# Altium integrated library Analog Devices Data Converters Analog-to-Digital Converters.IntLib: 2400 symbols (part 326 of 338)
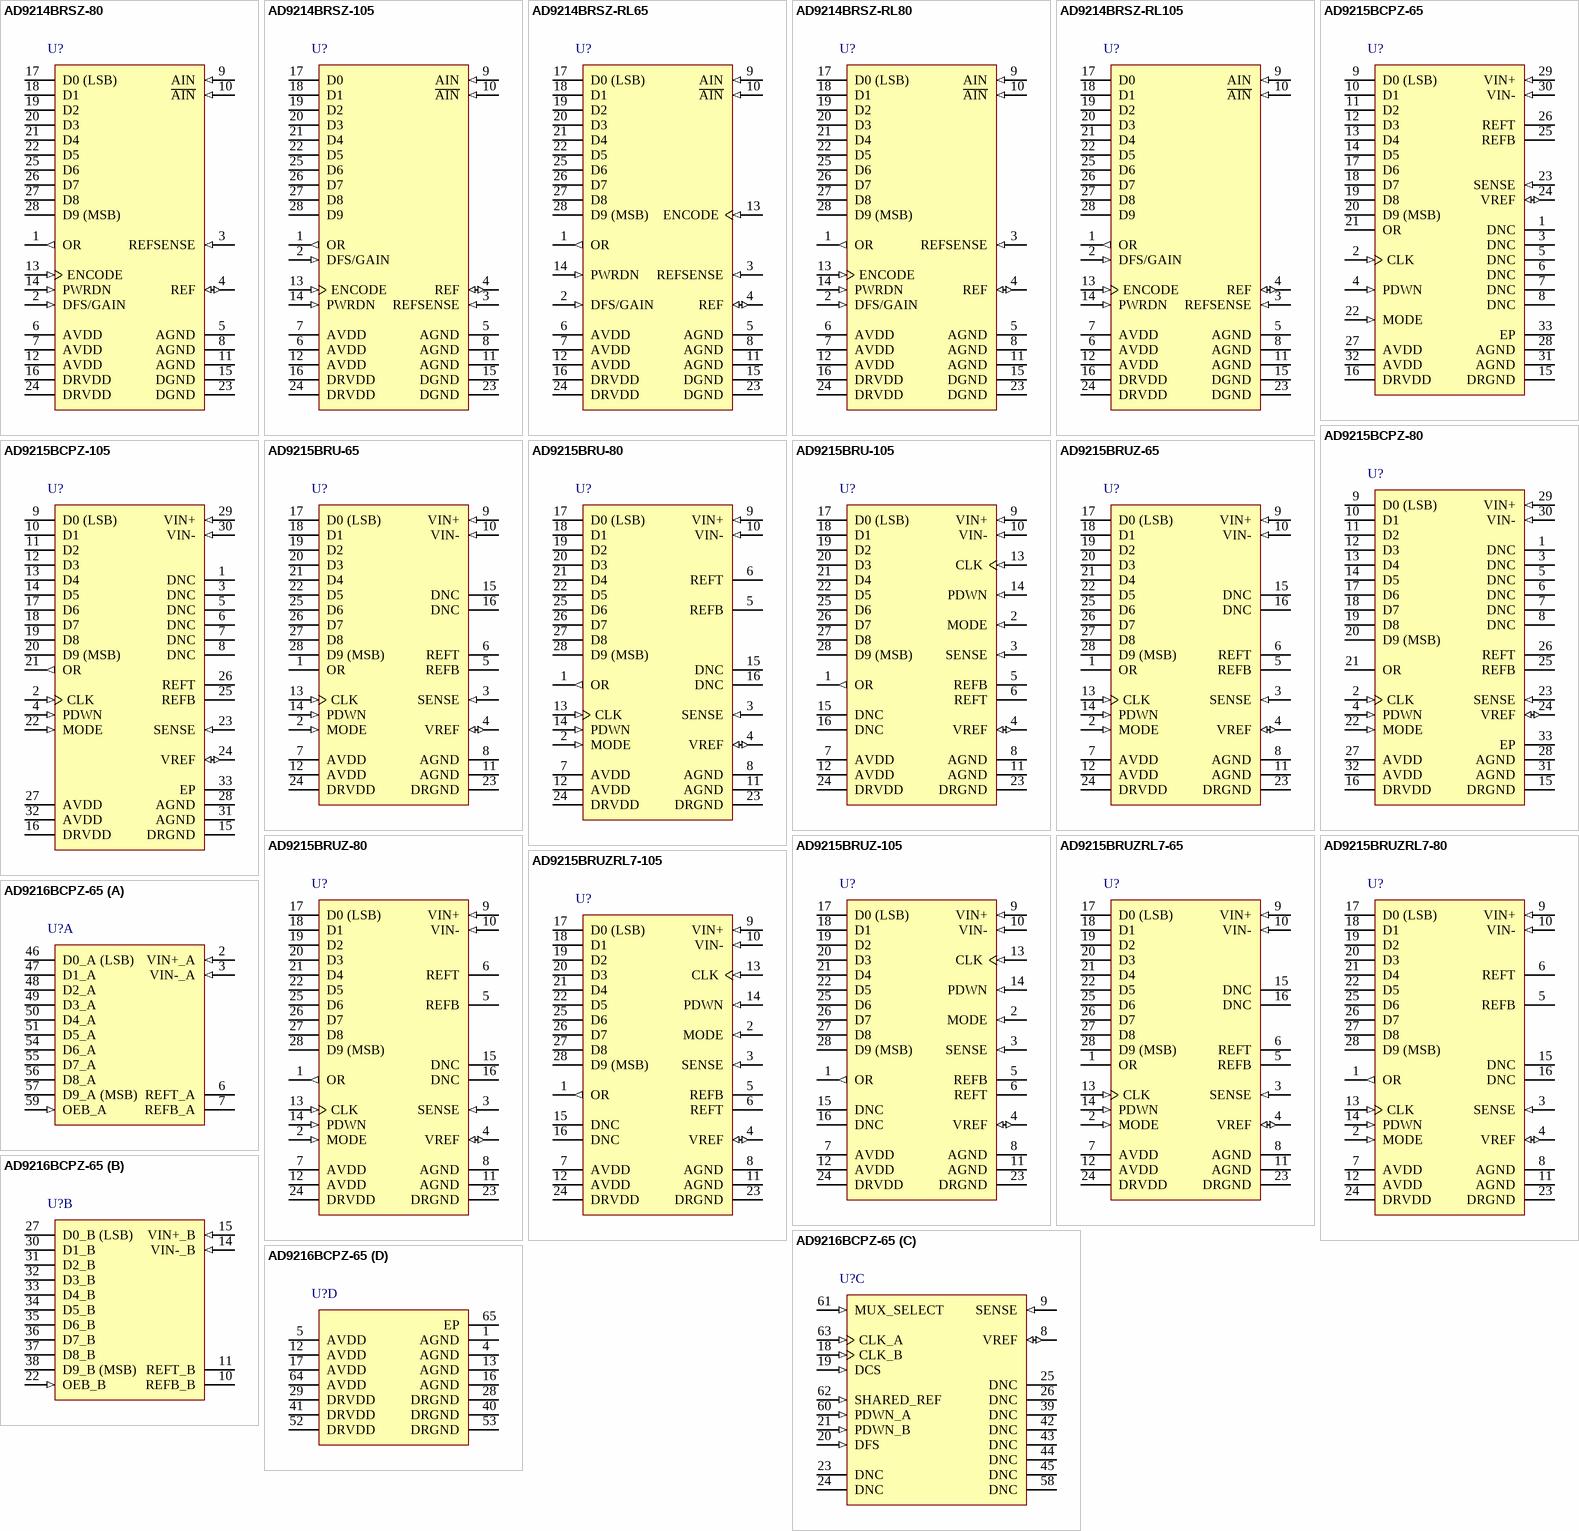
[diagram p432: symbols AD9214BRSZ-80 to AD9216BCPZ-65]

## AD9215BCPZ-80
designator U?
Single 10-Bit Analog-to-Digital Converter with Parallel Interface, 80MSPS, -40 to +85 degC, CP-32-2, Pb-Free, Tray; Part Number: AD9215-80; Manufacturer: Analog Devices; Resolution (Bits): 10; Channels: 1; Throughput Rate (SPS): 80M; Interface: Par; DatasheetVersion: Rev.A; PackageVersion: Jan-2005; PackageReference: CP-32-2; PackageDescription: 32-Lead Lead Frame Chip Scale Package [LFCSP_VQ] 5 x 5 mm Body, Very Thin Quad; RoHS: Y; Packing: Tray; Mounting Technology: Surface Mount; Code_JEDEC: MO-220-VHHD-2; ComponentLink1Description: Manufacturer URL; ComponentLink1URL: http://www.analog.com/en/index.html; ComponentLink2Description: Datasheet; ComponentLink2URL: http://www.analog.com/static/imported-files/data_sheets/AD9215.pdf; ComponentLink3Description: Package Specification; ComponentLink3URL: http://www.analog.com/static/imported-files/packages/414143737956480539664569CP_32_2.pdf; ComponentLink4Description: Product URL; ComponentLink4URL: http://www.analog.com/en/analog-to-digital-converters/ad-converters/ad9215/products/product.html
footprint CP-32-2_N (QFN, 32-Leads, Body 5x5mm, Pitch 0.5mm, Thermal Pad 3.1x3.1mm, IPC Medium Density)
footprint CP-32-2_L (QFN, 32-Leads, Body 5x5mm, Pitch 0.5mm, Thermal Pad 3.1x3.1mm, IPC High Density)
footprint CP-32-2_M (QFN, 32-Leads, Body 5x5mm, Pitch 0.5mm, Thermal Pad 3.1x3.1mm, IPC Low Density)
pins: 1 DNC "Do not connect, recommend floating this pin.", 2 CLK (in) "Clock Input Pin.", 3 DNC "Do not connect, recommend floating this pin.", 4 PDWN (in) "Power-Down Function Selection (Active High).", 5 DNC "Do not connect, recommend floating this pin.", 6 DNC "Do not connect, recommend floating this pin.", 7 DNC "Do not connect, recommend floating this pin.", 8 DNC "Do not connect, recommend floating this pin.", 9 D0 (LSB) (hiz) "Data Output Bits.", 10 D1 (hiz) "Data Output Bits.", 11 D2 (hiz) "Data Output Bits.", 12 D3 (hiz) "Data Output Bits.", 13 D4 (hiz) "Data Output Bits.", 14 D5 (hiz) "Data Output Bits.", 15 DRGND (power) "Digital Output Ground.", 16 DRVDD (power) "Digital Output Driver Supply. Must be decoupled to DRGND with a minimum 0.1 uF capacitor. Recommended decoupling is 0.1 uF in parallel with 10 uF.", 17 D6 (hiz) "Data Output Bits.", 18 D7 (hiz) "Data Output Bits.", 19 D8 (hiz) "Data Output Bits.", 20 D9 (MSB) (hiz) "Data Output Bits.", 21 OR (hiz) "Out-of-Range Indicator.", 22 MODE (in) "Data Format and Clock Duty Cycle Stabilizer (DCS) Mode Selection.", 23 SENSE (in) "Reference Mode Selection.", 24 VREF (io) "Voltage Reference Input/Output.", 25 REFB "Differential Reference (Negative).", 26 REFT "Differential Reference (Positive).", 27 AVDD (power) "Analog Power Supply.", 28 AGND (power) "Analog Ground.", 29 VIN+ (in) "Analog Input Pin (+).", 30 VIN- (in) "Analog Input Pin (-).", 31 AGND (power) "Analog Ground.", 32 AVDD (power) "Analog Power Supply.", 33 EP (power) "Exposed pad."

## AD9215BCPZ-105
designator U?
Single 10-Bit Analog-to-Digital Converter with Parallel Interface, 105MSPS, -40 to +85 degC, CP-32-2, Pb-Free,Tray; Part Number: AD9215-105; Manufacturer: Analog Devices; Resolution (Bits): 10; Channels: 1; Throughput Rate (SPS): 105M; Interface: Par; DatasheetVersion: Rev.A; PackageVersion: Jan-2005; PackageReference: CP-32-2; PackageDescription: 32-Lead Lead Frame Chip Scale Package [LFCSP_VQ] 5 x 5 mm Body, Very Thin Quad; RoHS: Y; Packing: Tray; Mounting Technology: Surface Mount; Code_JEDEC: MO-220-VHHD-2; ComponentLink1Description: Manufacturer URL; ComponentLink1URL: http://www.analog.com/en/index.html; ComponentLink2Description: Datasheet; ComponentLink2URL: http://www.analog.com/static/imported-files/data_sheets/AD9215.pdf; ComponentLink3Description: Package Specification; ComponentLink3URL: http://www.analog.com/static/imported-files/packages/414143737956480539664569CP_32_2.pdf; ComponentLink4Description: Product URL; ComponentLink4URL: http://www.analog.com/en/analog-to-digital-converters/ad-converters/ad9215/products/product.html
footprint CP-32-2_N (QFN, 32-Leads, Body 5x5mm, Pitch 0.5mm, Thermal Pad 3.1x3.1mm, IPC Medium Density)
footprint CP-32-2_L (QFN, 32-Leads, Body 5x5mm, Pitch 0.5mm, Thermal Pad 3.1x3.1mm, IPC High Density)
footprint CP-32-2_M (QFN, 32-Leads, Body 5x5mm, Pitch 0.5mm, Thermal Pad 3.1x3.1mm, IPC Low Density)
pins: 1 DNC "Do not connect, recommend floating this pin.", 2 CLK (in) "Clock Input Pin.", 3 DNC "Do not connect, recommend floating this pin.", 4 PDWN (in) "Power-Down Function Selection (Active High).", 5 DNC "Do not connect, recommend floating this pin.", 6 DNC "Do not connect, recommend floating this pin.", 7 DNC "Do not connect, recommend floating this pin.", 8 DNC "Do not connect, recommend floating this pin.", 9 D0 (LSB) (hiz) "Data Output Bits.", 10 D1 (hiz) "Data Output Bits.", 11 D2 (hiz) "Data Output Bits.", 12 D3 (hiz) "Data Output Bits.", 13 D4 (hiz) "Data Output Bits.", 14 D5 (hiz) "Data Output Bits.", 15 DRGND (power) "Digital Output Ground.", 16 DRVDD (power) "Digital Output Driver Supply. Must be decoupled to DRGND with a minimum 0.1 uF capacitor. Recommended decoupling is 0.1 uF in parallel with 10 uF.", 17 D6 (hiz) "Data Output Bits.", 18 D7 (hiz) "Data Output Bits.", 19 D8 (hiz) "Data Output Bits.", 20 D9 (MSB) (hiz) "Data Output Bits.", 21 OR (out) "Out-of-Range Indicator.", 22 MODE (in) "Data Format and Clock Duty Cycle Stabilizer (DCS) Mode Selection.", 23 SENSE (in) "Reference Mode Selection.", 24 VREF (io) "Voltage Reference Input/Output.", 25 REFB "Differential Reference (Negative).", 26 REFT "Differential Reference (Positive).", 27 AVDD (power) "Analog Power Supply.", 28 AGND (power) "Analog Ground.", 29 VIN+ (in) "Analog Input Pin (+).", 30 VIN- (in) "Analog Input Pin (-).", 31 AGND (power) "Analog Ground.", 32 AVDD (power) "Analog Power Supply.", 33 EP (power) "Exposed pad."

## AD9215BRU-65
designator U?
Single 10-Bit Analog-to-Digital Converter with Parallel Interface, 65MSPS, -40 to +85 degC, RU-28, Tube; Part Number: AD9215-65; Manufacturer: Analog Devices; Resolution (Bits): 10; Channels: 1; Throughput Rate (SPS): 65M; Interface: Par; DatasheetVersion: Rev.A; PackageVersion: 2005; PackageReference: RU-28; PackageDescription: 28-Lead Thin Shrink Small Outline Package [TSSOP]; RoHS: N; Packing: Tube; Mounting Technology: Surface Mount; Code_JEDEC: MO-153-AE; ComponentLink1Description: Manufacturer URL; ComponentLink1URL: http://www.analog.com/en/index.html; ComponentLink2Description: Datasheet; ComponentLink2URL: http://www.analog.com/static/imported-files/data_sheets/AD9215.pdf; ComponentLink3Description: Package Specification; ComponentLink3URL: http://www.analog.com/static/imported-files/packages/249854663RU_28.pdf; ComponentLink4Description: Product URL; ComponentLink4URL: http://www.analog.com/en/analog-to-digital-converters/ad-converters/ad9215/products/product.html
footprint RU-28_N (TSOP, 28-Leads, Body 9.7x4.4mm, Pitch 0.65mm, IPC Medium Density)
footprint RU-28_L (TSOP, 28-Leads, Body 9.7x4.4mm, Pitch 0.65mm, IPC High Density)
footprint RU-28_M (TSOP, 28-Leads, Body 9.7x4.4mm, Pitch 0.65mm, IPC Low Density)
pins: 1 OR (hiz) "Out-of-Range Indicator.", 2 MODE (in) "Data Format and Clock Duty Cycle Stabilizer (DCS) Mode Selection.", 3 SENSE (in) "Reference Mode Selection.", 4 VREF (io) "Voltage Reference Input/Output.", 5 REFB "Differential Reference (Negative).", 6 REFT "Differential Reference (Positive).", 7 AVDD (power) "Analog Power Supply.", 8 AGND (power) "Analog Ground.", 9 VIN+ (in) "Analog Input Pin (+).", 10 VIN- (in) "Analog Input Pin (-).", 11 AGND (power) "Analog Ground.", 12 AVDD (power) "Analog Power Supply.", 13 CLK (in) "Clock Input Pin.", 14 PDWN (in) "Power-Down Function Selection (Active High).", 15 DNC "Do not connect, recommend floating this pin.", 16 DNC "Do not connect, recommend floating this pin.", 17 D0 (LSB) (hiz) "Data Output Bits.", 18 D1 (hiz) "Data Output Bits.", 19 D2 (hiz) "Data Output Bits.", 20 D3 (hiz) "Data Output Bits.", 21 D4 (hiz) "Data Output Bits.", 22 D5 (hiz) "Data Output Bits.", 23 DRGND (power) "Digital Output Ground.", 24 DRVDD (power) "Digital Output Driver Supply. Must be decoupled to DRGND with a minimum 0.1 uF capacitor. Recommended decoupling is 0.1 uF in parallel with 10 uF.", 25 D6 (hiz) "Data Output Bits.", 26 D7 (hiz) "Data Output Bits.", 27 D8 (hiz) "Data Output Bits.", 28 D9 (MSB) (hiz) "Data Output Bits."

## AD9215BRU-80
designator U?
Single 10-Bit Analog-to-Digital Converter with Parallel Interface, 80MSPS, -40 to +85 degC, RU-28, Tube; Part Number: AD9215-80; Manufacturer: Analog Devices; Resolution (Bits): 10; Channels: 1; Throughput Rate (SPS): 80M; Interface: Par; DatasheetVersion: Rev.A; PackageVersion: 2005; PackageReference: RU-28; PackageDescription: 28-Lead Thin Shrink Small Outline Package [TSSOP]; RoHS: N; Packing: Tube; Mounting Technology: Surface Mount; Code_JEDEC: MO-153-AE; ComponentLink1Description: Manufacturer URL; ComponentLink1URL: http://www.analog.com/en/index.html; ComponentLink2Description: Datasheet; ComponentLink2URL: http://www.analog.com/static/imported-files/data_sheets/AD9215.pdf; ComponentLink3Description: Package Specification; ComponentLink3URL: http://www.analog.com/static/imported-files/packages/249854663RU_28.pdf; ComponentLink4Description: Product URL; ComponentLink4URL: http://www.analog.com/en/analog-to-digital-converters/ad-converters/ad9215/products/product.html
footprint RU-28_N (TSOP, 28-Leads, Body 9.7x4.4mm, Pitch 0.65mm, IPC Medium Density)
footprint RU-28_L (TSOP, 28-Leads, Body 9.7x4.4mm, Pitch 0.65mm, IPC High Density)
footprint RU-28_M (TSOP, 28-Leads, Body 9.7x4.4mm, Pitch 0.65mm, IPC Low Density)
pins: 1 OR (out) "Out-of-Range Indicator.", 2 MODE (in) "Data Format and Clock Duty Cycle Stabilizer (DCS) Mode Selection.", 3 SENSE (in) "Reference Mode Selection.", 4 VREF (io) "Voltage Reference Input/Output.", 5 REFB "Differential Reference (Negative).", 6 REFT "Differential Reference (Positive).", 7 AVDD (power) "Analog Power Supply.", 8 AGND (power) "Analog Ground.", 9 VIN+ (in) "Analog Input Pin (+).", 10 VIN- (in) "Analog Input Pin (-).", 11 AGND (power) "Analog Ground.", 12 AVDD (power) "Analog Power Supply.", 13 CLK (in) "Clock Input Pin.", 14 PDWN (in) "Power-Down Function Selection (Active High).", 15 DNC "Do not connect, recommend floating this pin.", 16 DNC "Do not connect, recommend floating this pin.", 17 D0 (LSB) (hiz) "Data Output Bits.", 18 D1 (hiz) "Data Output Bits.", 19 D2 (hiz) "Data Output Bits.", 20 D3 (hiz) "Data Output Bits.", 21 D4 (hiz) "Data Output Bits.", 22 D5 (hiz) "Data Output Bits.", 23 DRGND (power) "Digital Output Ground.", 24 DRVDD (power) "Digital Output Driver Supply. Must be decoupled to DRGND with a minimum 0.1 uF capacitor. Recommended decoupling is 0.1 uF in parallel with 10 uF.", 25 D6 (hiz) "Data Output Bits.", 26 D7 (hiz) "Data Output Bits.", 27 D8 (hiz) "Data Output Bits.", 28 D9 (MSB) (hiz) "Data Output Bits."

## AD9215BRU-105
designator U?
Single 10-Bit Analog-to-Digital Converter with Parallel Interface, 105MSPS, -40 to +85 degC, RU-28,Tube; Part Number: AD9215-105; Manufacturer: Analog Devices; Resolution (Bits): 10; Channels: 1; Throughput Rate (SPS): 105M; Interface: Par; DatasheetVersion: Rev.A; PackageVersion: 2005; PackageReference: RU-28; PackageDescription: 28-Lead Thin Shrink Small Outline Package [TSSOP]; RoHS: N; Packing: Tube; Mounting Technology: Surface Mount; Code_JEDEC: MO-153-AE; ComponentLink1Description: Manufacturer URL; ComponentLink1URL: http://www.analog.com/en/index.html; ComponentLink2Description: Datasheet; ComponentLink2URL: http://www.analog.com/static/imported-files/data_sheets/AD9215.pdf; ComponentLink3Description: Package Specification; ComponentLink3URL: http://www.analog.com/static/imported-files/packages/249854663RU_28.pdf; ComponentLink4Description: Product URL; ComponentLink4URL: http://www.analog.com/en/analog-to-digital-converters/ad-converters/ad9215/products/product.html
footprint RU-28_N (TSOP, 28-Leads, Body 9.7x4.4mm, Pitch 0.65mm, IPC Medium Density)
footprint RU-28_L (TSOP, 28-Leads, Body 9.7x4.4mm, Pitch 0.65mm, IPC High Density)
footprint RU-28_M (TSOP, 28-Leads, Body 9.7x4.4mm, Pitch 0.65mm, IPC Low Density)
pins: 1 OR (out) "Out-of-Range Indicator.", 2 MODE (in) "Data Format and Clock Duty Cycle Stabilizer (DCS) Mode Selection.", 3 SENSE (in) "Reference Mode Selection.", 4 VREF (io) "Voltage Reference Input/Output.", 5 REFB "Differential Reference (Negative).", 6 REFT "Differential Reference (Positive).", 7 AVDD (power) "Analog Power Supply.", 8 AGND (power) "Analog Ground.", 9 VIN+ (in) "Analog Input Pin (+).", 10 VIN- (in) "Analog Input Pin (-).", 11 AGND (power) "Analog Ground.", 12 AVDD (power) "Analog Power Supply.", 13 CLK (in) "Clock Input Pin.", 14 PDWN (in) "Power-Down Function Selection (Active High).", 15 DNC "Do not connect, recommend floating this pin.", 16 DNC "Do not connect, recommend floating this pin.", 17 D0 (LSB) (hiz) "Data Output Bits.", 18 D1 (hiz) "Data Output Bits.", 19 D2 (hiz) "Data Output Bits.", 20 D3 (hiz) "Data Output Bits.", 21 D4 (hiz) "Data Output Bits.", 22 D5 (hiz) "Data Output Bits.", 23 DRGND (power) "Digital Output Ground.", 24 DRVDD (power) "Digital Output Driver Supply. Must be decoupled to DRGND with a minimum 0.1 uF capacitor. Recommended decoupling is 0.1 uF in parallel with 10 uF.", 25 D6 (hiz) "Data Output Bits.", 26 D7 (hiz) "Data Output Bits.", 27 D8 (hiz) "Data Output Bits.", 28 D9 (MSB) (hiz) "Data Output Bits."